# Altium integrated library NSC Voltage Reference.IntLib: 777 symbols (part 17 of 20)
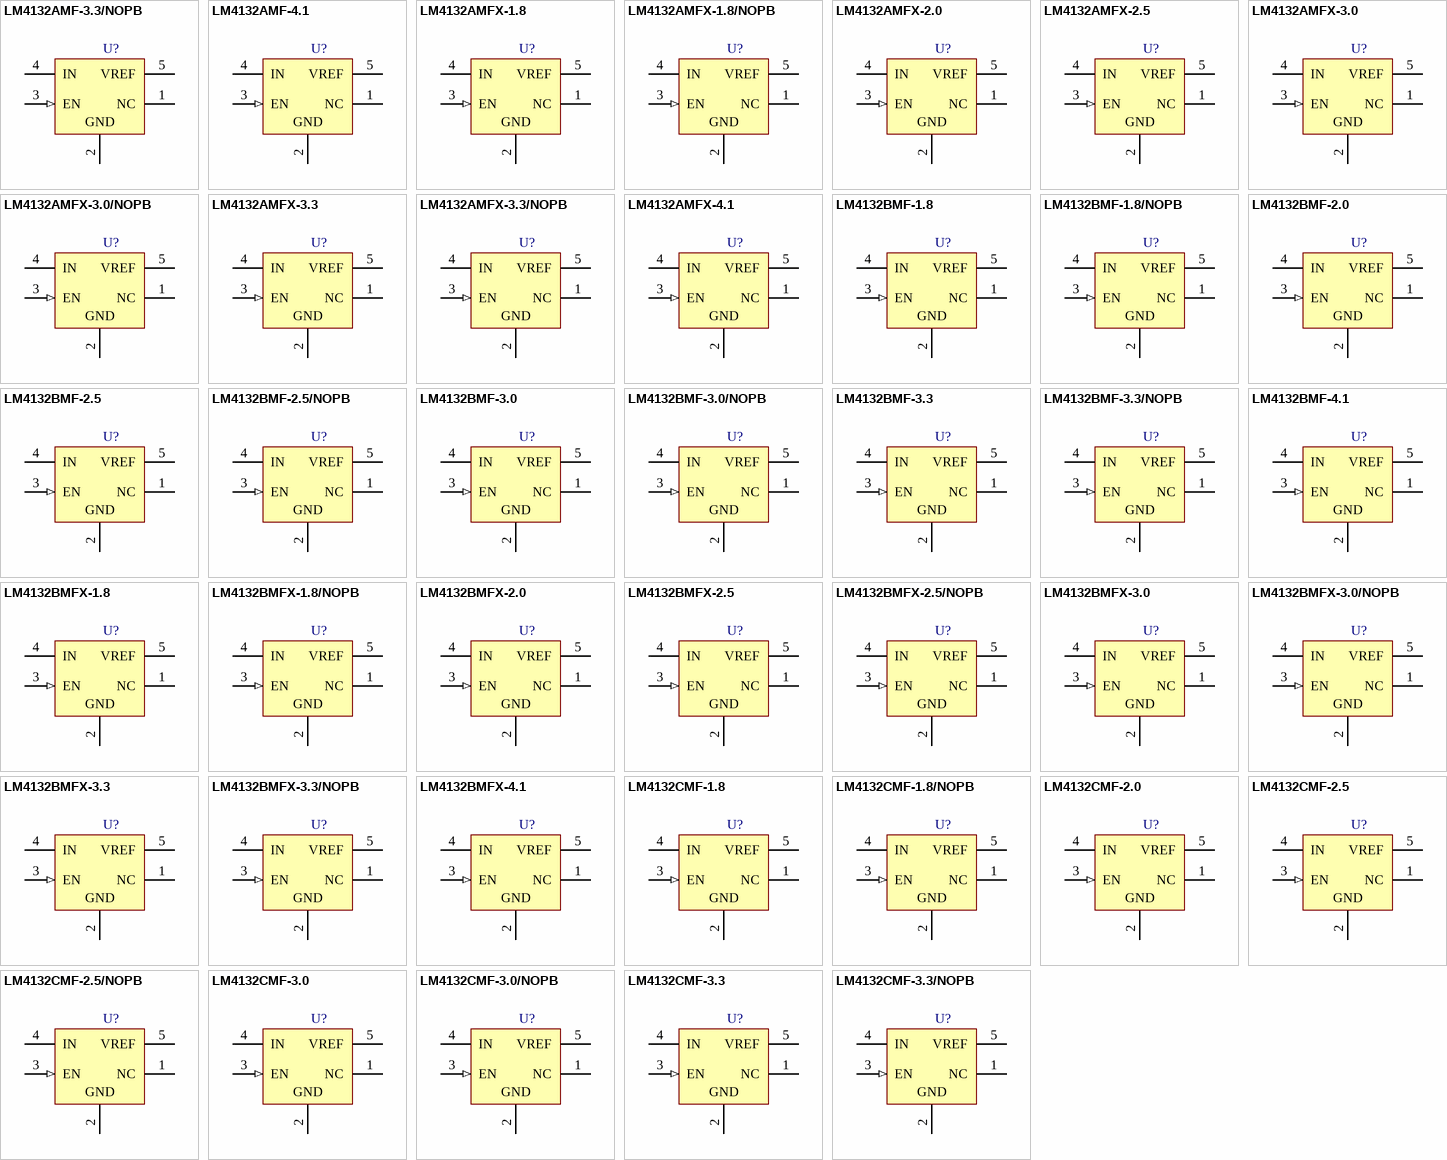
[diagram p36: symbols LM4132AMF-3.3/NOPB to LM4132CMF-3.3/NOPB]

## LM4132AMF-4.1
designator U?
Precision Low Dropout Voltage Reference, 5-pin SOT-23; PartNumber: LM4132AMF-4.1; Manufacturer: National Semiconductor; PackageTopMarking: R4FA*XTT; PowerWise: Y; CompType: Voltage Reference IC; Published: 4-Dec-2008; DatasheetVersion: Aug-2006; PackageVersion: revD, Aug-2008; PackageReference: MF05A; Publisher: Altium Limited; PackageDescription: Molded SOT-23, .115 x .063 x .040 in Body, 5 Lead, .0375 in Pitch; Supplier 1: Farnell; Supplier Part Number 1: 1312751; RoHS: N; PinCount: 5; ComponentLink1Description: LM4132 Datasheet; ComponentLink1URL: http://www.national.com/ds/LM/LM4132.pdf; ComponentLink2Description: LM4132 Web Page; ComponentLink2URL: http://www.national.com/pf/LM/LM4132.html; ComponentLink3Description: MF05A Package Page; ComponentLink3URL: http://www.national.com/packaging/folders/mf05a.html
footprint MF05A_N (SOT23, 5-Leads, Body 2.9x1.6mm, Pitch 0.95mm, Lead Span 2.8mm, IPC Medium Density)
footprint MF05A_L (SOT23, 5-Leads, Body 2.9x1.6mm, Pitch 0.95mm, Lead Span 2.8mm, IPC High Density)
footprint MF05A_M (SOT23, 5-Leads, Body 2.9x1.6mm, Pitch 0.95mm, Lead Span 2.8mm, IPC Low Density)
pins: 1 NC, 2 GND (power), 3 EN (in), 4 IN (power), 5 VREF (power)

## LM4132AMFX-1.8
designator U?
Precision Low Dropout Voltage Reference, 5-pin SOT-23; PartNumber: LM4132AMFX-1.8; Manufacturer: National Semiconductor; PackageTopMarking: R4AA*XTT; PowerWise: N; CompType: Voltage Reference IC; Published: 1-Mar-2010; DatasheetVersion: Aug-2006; PackageVersion: revD, Aug-2008; PackageReference: MF05A; Publisher: Altium Limited; PackageDescription: Molded SOT-23, .115 x .063 x .040 in Body, 5 Lead, .0375 in Pitch; RoHS: N; PinCount: 5; ComponentLink1Description: LM4132 Datasheet; ComponentLink1URL: http://www.national.com/ds/LM/LM4132.pdf; ComponentLink2Description: LM4132 Web Page; ComponentLink2URL: http://www.national.com/pf/LM/LM4132.html; ComponentLink3Description: MF05A Package Page; ComponentLink3URL: http://www.national.com/packaging/folders/mf05a.html
footprint MF05A_N (SOT23, 5-Leads, Body 2.9x1.6mm, Pitch 0.95mm, Lead Span 2.8mm, IPC Medium Density)
footprint MF05A_L (SOT23, 5-Leads, Body 2.9x1.6mm, Pitch 0.95mm, Lead Span 2.8mm, IPC High Density)
footprint MF05A_M (SOT23, 5-Leads, Body 2.9x1.6mm, Pitch 0.95mm, Lead Span 2.8mm, IPC Low Density)
pins: 1 NC, 2 GND (power), 3 EN (in), 4 IN (power), 5 VREF (power)

## LM4132AMFX-1.8/NOPB
designator U?
Precision Low Dropout Voltage Reference, 5-pin SOT-23, Pb-Free; PartNumber: LM4132AMFX-1.8/NOPB; Manufacturer: National Semiconductor; PackageTopMarking: R4AA*XTT; PowerWise: N; CompType: Voltage Reference IC; Published: 1-Mar-2010; DatasheetVersion: Aug-2006; PackageVersion: revD, Aug-2008; PackageReference: MF05A; Publisher: Altium Limited; PackageDescription: Molded SOT-23, .115 x .063 x .040 in Body, 5 Lead, .0375 in Pitch; Supplier 1: Digi-Key; Supplier Part Number 1: LM4132AMFX-1.8-ND; RoHS: Y; PinCount: 5; ComponentLink1Description: LM4132 Datasheet; ComponentLink1URL: http://www.national.com/ds/LM/LM4132.pdf; ComponentLink2Description: LM4132 Web Page; ComponentLink2URL: http://www.national.com/pf/LM/LM4132.html; ComponentLink3Description: MF05A Package Page; ComponentLink3URL: http://www.national.com/packaging/folders/mf05a.html
footprint MF05A_N (SOT23, 5-Leads, Body 2.9x1.6mm, Pitch 0.95mm, Lead Span 2.8mm, IPC Medium Density)
footprint MF05A_L (SOT23, 5-Leads, Body 2.9x1.6mm, Pitch 0.95mm, Lead Span 2.8mm, IPC High Density)
footprint MF05A_M (SOT23, 5-Leads, Body 2.9x1.6mm, Pitch 0.95mm, Lead Span 2.8mm, IPC Low Density)
pins: 1 NC, 2 GND (power), 3 EN (in), 4 IN (power), 5 VREF (power)

## LM4132AMFX-2.0
designator U?
Precision Low Dropout Voltage Reference, 5-pin SOT-23; PartNumber: LM4132AMFX-2.0; Manufacturer: National Semiconductor; PackageTopMarking: R4BA*XTT; PowerWise: Y; CompType: Voltage Reference IC; Published: 1-Mar-2010; DatasheetVersion: Aug-2006; PackageVersion: revD, Aug-2008; PackageReference: MF05A; Publisher: Altium Limited; PackageDescription: Molded SOT-23, .115 x .063 x .040 in Body, 5 Lead, .0375 in Pitch; RoHS: N; PinCount: 5; ComponentLink1Description: LM4132 Datasheet; ComponentLink1URL: http://www.national.com/ds/LM/LM4132.pdf; ComponentLink2Description: LM4132 Web Page; ComponentLink2URL: http://www.national.com/pf/LM/LM4132.html; ComponentLink3Description: MF05A Package Page; ComponentLink3URL: http://www.national.com/packaging/folders/mf05a.html
footprint MF05A_N (SOT23, 5-Leads, Body 2.9x1.6mm, Pitch 0.95mm, Lead Span 2.8mm, IPC Medium Density)
footprint MF05A_L (SOT23, 5-Leads, Body 2.9x1.6mm, Pitch 0.95mm, Lead Span 2.8mm, IPC High Density)
footprint MF05A_M (SOT23, 5-Leads, Body 2.9x1.6mm, Pitch 0.95mm, Lead Span 2.8mm, IPC Low Density)
pins: 1 NC, 2 GND (power), 3 EN (in), 4 IN (power), 5 VREF (power)

## LM4132AMFX-2.5
designator U?
Precision Low Dropout Voltage Reference, 5-pin SOT-23; PartNumber: LM4132AMFX-2.5; Manufacturer: National Semiconductor; PackageTopMarking: R4CA*XTT; PowerWise: Y; CompType: Voltage Reference IC; Published: 1-Mar-2010; DatasheetVersion: Aug-2006; PackageVersion: revD, Aug-2008; PackageReference: MF05A; Publisher: Altium Limited; PackageDescription: Molded SOT-23, .115 x .063 x .040 in Body, 5 Lead, .0375 in Pitch; RoHS: N; PinCount: 5; ComponentLink1Description: LM4132 Datasheet; ComponentLink1URL: http://www.national.com/ds/LM/LM4132.pdf; ComponentLink2Description: LM4132 Web Page; ComponentLink2URL: http://www.national.com/pf/LM/LM4132.html; ComponentLink3Description: MF05A Package Page; ComponentLink3URL: http://www.national.com/packaging/folders/mf05a.html
footprint MF05A_N (SOT23, 5-Leads, Body 2.9x1.6mm, Pitch 0.95mm, Lead Span 2.8mm, IPC Medium Density)
footprint MF05A_L (SOT23, 5-Leads, Body 2.9x1.6mm, Pitch 0.95mm, Lead Span 2.8mm, IPC High Density)
footprint MF05A_M (SOT23, 5-Leads, Body 2.9x1.6mm, Pitch 0.95mm, Lead Span 2.8mm, IPC Low Density)
pins: 1 NC, 2 GND (power), 3 EN (in), 4 IN (power), 5 VREF (power)

## LM4132AMFX-3.0
designator U?
Precision Low Dropout Voltage Reference, 5-pin SOT-23; PartNumber: LM4132AMFX-3.0; Manufacturer: National Semiconductor; PackageTopMarking: R4DA*XTT; PowerWise: N; CompType: Voltage Reference IC; Published: 1-Mar-2010; DatasheetVersion: Aug-2006; PackageVersion: revD, Aug-2008; PackageReference: MF05A; Publisher: Altium Limited; PackageDescription: Molded SOT-23, .115 x .063 x .040 in Body, 5 Lead, .0375 in Pitch; RoHS: N; PinCount: 5; ComponentLink1Description: LM4132 Datasheet; ComponentLink1URL: http://www.national.com/ds/LM/LM4132.pdf; ComponentLink2Description: LM4132 Web Page; ComponentLink2URL: http://www.national.com/pf/LM/LM4132.html; ComponentLink3Description: MF05A Package Page; ComponentLink3URL: http://www.national.com/packaging/folders/mf05a.html
footprint MF05A_N (SOT23, 5-Leads, Body 2.9x1.6mm, Pitch 0.95mm, Lead Span 2.8mm, IPC Medium Density)
footprint MF05A_L (SOT23, 5-Leads, Body 2.9x1.6mm, Pitch 0.95mm, Lead Span 2.8mm, IPC High Density)
footprint MF05A_M (SOT23, 5-Leads, Body 2.9x1.6mm, Pitch 0.95mm, Lead Span 2.8mm, IPC Low Density)
pins: 1 NC, 2 GND (power), 3 EN (in), 4 IN (power), 5 VREF (power)

## LM4132AMFX-3.0/NOPB
designator U?
Precision Low Dropout Voltage Reference, 5-pin SOT-23, Pb-Free; PartNumber: LM4132AMFX-3.0/NOPB; Manufacturer: National Semiconductor; PackageTopMarking: R4DA*XTT; PowerWise: N; CompType: Voltage Reference IC; Published: 1-Mar-2010; DatasheetVersion: Aug-2006; PackageVersion: revD, Aug-2008; PackageReference: MF05A; Publisher: Altium Limited; PackageDescription: Molded SOT-23, .115 x .063 x .040 in Body, 5 Lead, .0375 in Pitch; Supplier 1: Digi-Key; Supplier Part Number 1: LM4132AMFX-3.0-ND; RoHS: Y; PinCount: 5; ComponentLink1Description: LM4132 Datasheet; ComponentLink1URL: http://www.national.com/ds/LM/LM4132.pdf; ComponentLink2Description: LM4132 Web Page; ComponentLink2URL: http://www.national.com/pf/LM/LM4132.html; ComponentLink3Description: MF05A Package Page; ComponentLink3URL: http://www.national.com/packaging/folders/mf05a.html
footprint MF05A_N (SOT23, 5-Leads, Body 2.9x1.6mm, Pitch 0.95mm, Lead Span 2.8mm, IPC Medium Density)
footprint MF05A_L (SOT23, 5-Leads, Body 2.9x1.6mm, Pitch 0.95mm, Lead Span 2.8mm, IPC High Density)
footprint MF05A_M (SOT23, 5-Leads, Body 2.9x1.6mm, Pitch 0.95mm, Lead Span 2.8mm, IPC Low Density)
pins: 1 NC, 2 GND (power), 3 EN (in), 4 IN (power), 5 VREF (power)

## LM4132AMFX-3.3
designator U?
Precision Low Dropout Voltage Reference, 5-pin SOT-23; PartNumber: LM4132AMFX-3.3; Manufacturer: National Semiconductor; PackageTopMarking: R4EA*XTT; PowerWise: N; CompType: Voltage Reference IC; Published: 1-Mar-2010; DatasheetVersion: Aug-2006; PackageVersion: revD, Aug-2008; PackageReference: MF05A; Publisher: Altium Limited; PackageDescription: Molded SOT-23, .115 x .063 x .040 in Body, 5 Lead, .0375 in Pitch; RoHS: N; PinCount: 5; ComponentLink1Description: LM4132 Datasheet; ComponentLink1URL: http://www.national.com/ds/LM/LM4132.pdf; ComponentLink2Description: LM4132 Web Page; ComponentLink2URL: http://www.national.com/pf/LM/LM4132.html; ComponentLink3Description: MF05A Package Page; ComponentLink3URL: http://www.national.com/packaging/folders/mf05a.html
footprint MF05A_N (SOT23, 5-Leads, Body 2.9x1.6mm, Pitch 0.95mm, Lead Span 2.8mm, IPC Medium Density)
footprint MF05A_L (SOT23, 5-Leads, Body 2.9x1.6mm, Pitch 0.95mm, Lead Span 2.8mm, IPC High Density)
footprint MF05A_M (SOT23, 5-Leads, Body 2.9x1.6mm, Pitch 0.95mm, Lead Span 2.8mm, IPC Low Density)
pins: 1 NC, 2 GND (power), 3 EN (in), 4 IN (power), 5 VREF (power)

## LM4132AMFX-3.3/NOPB
designator U?
Precision Low Dropout Voltage Reference, 5-pin SOT-23, Pb-Free; PartNumber: LM4132AMFX-3.3/NOPB; Manufacturer: National Semiconductor; PackageTopMarking: R4EA*XTT; PowerWise: N; CompType: Voltage Reference IC; Published: 1-Mar-2010; DatasheetVersion: Aug-2006; PackageVersion: revD, Aug-2008; PackageReference: MF05A; Publisher: Altium Limited; PackageDescription: Molded SOT-23, .115 x .063 x .040 in Body, 5 Lead, .0375 in Pitch; Supplier 1: Digi-Key; Supplier Part Number 1: LM4132AMFX-3.3-ND; RoHS: Y; PinCount: 5; ComponentLink1Description: LM4132 Datasheet; ComponentLink1URL: http://www.national.com/ds/LM/LM4132.pdf; ComponentLink2Description: LM4132 Web Page; ComponentLink2URL: http://www.national.com/pf/LM/LM4132.html; ComponentLink3Description: MF05A Package Page; ComponentLink3URL: http://www.national.com/packaging/folders/mf05a.html
footprint MF05A_N (SOT23, 5-Leads, Body 2.9x1.6mm, Pitch 0.95mm, Lead Span 2.8mm, IPC Medium Density)
footprint MF05A_L (SOT23, 5-Leads, Body 2.9x1.6mm, Pitch 0.95mm, Lead Span 2.8mm, IPC High Density)
footprint MF05A_M (SOT23, 5-Leads, Body 2.9x1.6mm, Pitch 0.95mm, Lead Span 2.8mm, IPC Low Density)
pins: 1 NC, 2 GND (power), 3 EN (in), 4 IN (power), 5 VREF (power)

## LM4132AMFX-4.1
designator U?
Precision Low Dropout Voltage Reference, 5-pin SOT-23; PartNumber: LM4132AMFX-4.1; Manufacturer: National Semiconductor; PackageTopMarking: R4FA*XTT; PowerWise: Y; CompType: Voltage Reference IC; Published: 1-Mar-2010; DatasheetVersion: Aug-2006; PackageVersion: revD, Aug-2008; PackageReference: MF05A; Publisher: Altium Limited; PackageDescription: Molded SOT-23, .115 x .063 x .040 in Body, 5 Lead, .0375 in Pitch; RoHS: N; PinCount: 5; ComponentLink1Description: LM4132 Datasheet; ComponentLink1URL: http://www.national.com/ds/LM/LM4132.pdf; ComponentLink2Description: LM4132 Web Page; ComponentLink2URL: http://www.national.com/pf/LM/LM4132.html; ComponentLink3Description: MF05A Package Page; ComponentLink3URL: http://www.national.com/packaging/folders/mf05a.html
footprint MF05A_N (SOT23, 5-Leads, Body 2.9x1.6mm, Pitch 0.95mm, Lead Span 2.8mm, IPC Medium Density)
footprint MF05A_L (SOT23, 5-Leads, Body 2.9x1.6mm, Pitch 0.95mm, Lead Span 2.8mm, IPC High Density)
footprint MF05A_M (SOT23, 5-Leads, Body 2.9x1.6mm, Pitch 0.95mm, Lead Span 2.8mm, IPC Low Density)
pins: 1 NC, 2 GND (power), 3 EN (in), 4 IN (power), 5 VREF (power)

## LM4132BMF-1.8
designator U?
Precision Low Dropout Voltage Reference, 5-pin SOT-23; PartNumber: LM4132BMF-1.8; Manufacturer: National Semiconductor; PackageTopMarking: R4AB*XTT; PowerWise: N; CompType: Voltage Reference IC; Published: 4-Dec-2008; DatasheetVersion: Aug-2006; PackageVersion: revD, Aug-2008; PackageReference: MF05A; Publisher: Altium Limited; PackageDescription: Molded SOT-23, .115 x .063 x .040 in Body, 5 Lead, .0375 in Pitch; RoHS: N; PinCount: 5; ComponentLink1Description: LM4132 Datasheet; ComponentLink1URL: http://www.national.com/ds/LM/LM4132.pdf; ComponentLink2Description: LM4132 Web Page; ComponentLink2URL: http://www.national.com/pf/LM/LM4132.html; ComponentLink3Description: MF05A Package Page; ComponentLink3URL: http://www.national.com/packaging/folders/mf05a.html
footprint MF05A_N (SOT23, 5-Leads, Body 2.9x1.6mm, Pitch 0.95mm, Lead Span 2.8mm, IPC Medium Density)
footprint MF05A_L (SOT23, 5-Leads, Body 2.9x1.6mm, Pitch 0.95mm, Lead Span 2.8mm, IPC High Density)
footprint MF05A_M (SOT23, 5-Leads, Body 2.9x1.6mm, Pitch 0.95mm, Lead Span 2.8mm, IPC Low Density)
pins: 1 NC, 2 GND (power), 3 EN (in), 4 IN (power), 5 VREF (power)

## LM4132BMF-1.8/NOPB
designator U?
Precision Low Dropout Voltage Reference, 5-pin SOT-23, Pb-Free; PartNumber: LM4132BMF-1.8/NOPB; Manufacturer: National Semiconductor; PackageTopMarking: R4AB*XTT; PowerWise: N; CompType: Voltage Reference IC; Published: 1-Mar-2010; DatasheetVersion: Aug-2006; PackageVersion: revD, Aug-2008; PackageReference: MF05A; Publisher: Altium Limited; PackageDescription: Molded SOT-23, .115 x .063 x .040 in Body, 5 Lead, .0375 in Pitch; Supplier 1: Digi-Key; Supplier Part Number 1: LM4132BMF-1.8TR-ND; Supplier 2: Digi-Key; Supplier Part Number 2: LM4132BMF-1.8CT-ND; Supplier 3: Digi-Key; Supplier Part Number 3: LM4132BMF-1.8DKR-ND; RoHS: Y; PinCount: 5; ComponentLink1Description: LM4132 Datasheet; ComponentLink1URL: http://www.national.com/ds/LM/LM4132.pdf; ComponentLink2Description: LM4132 Web Page; ComponentLink2URL: http://www.national.com/pf/LM/LM4132.html; ComponentLink3Description: MF05A Package Page; ComponentLink3URL: http://www.national.com/packaging/folders/mf05a.html
footprint MF05A_N (SOT23, 5-Leads, Body 2.9x1.6mm, Pitch 0.95mm, Lead Span 2.8mm, IPC Medium Density)
footprint MF05A_L (SOT23, 5-Leads, Body 2.9x1.6mm, Pitch 0.95mm, Lead Span 2.8mm, IPC High Density)
footprint MF05A_M (SOT23, 5-Leads, Body 2.9x1.6mm, Pitch 0.95mm, Lead Span 2.8mm, IPC Low Density)
pins: 1 NC, 2 GND (power), 3 EN (in), 4 IN (power), 5 VREF (power)

## LM4132BMF-2.0
designator U?
Precision Low Dropout Voltage Reference, 5-pin SOT-23; PartNumber: LM4132BMF-2.0; Manufacturer: National Semiconductor; PackageTopMarking: R4BB*XTT; PowerWise: Y; CompType: Voltage Reference IC; Published: 4-Dec-2008; DatasheetVersion: Aug-2006; PackageVersion: revD, Aug-2008; PackageReference: MF05A; Publisher: Altium Limited; PackageDescription: Molded SOT-23, .115 x .063 x .040 in Body, 5 Lead, .0375 in Pitch; Supplier 1: Farnell; Supplier Part Number 1: 1312752; RoHS: N; PinCount: 5; ComponentLink1Description: LM4132 Datasheet; ComponentLink1URL: http://www.national.com/ds/LM/LM4132.pdf; ComponentLink2Description: LM4132 Web Page; ComponentLink2URL: http://www.national.com/pf/LM/LM4132.html; ComponentLink3Description: MF05A Package Page; ComponentLink3URL: http://www.national.com/packaging/folders/mf05a.html
footprint MF05A_N (SOT23, 5-Leads, Body 2.9x1.6mm, Pitch 0.95mm, Lead Span 2.8mm, IPC Medium Density)
footprint MF05A_L (SOT23, 5-Leads, Body 2.9x1.6mm, Pitch 0.95mm, Lead Span 2.8mm, IPC High Density)
footprint MF05A_M (SOT23, 5-Leads, Body 2.9x1.6mm, Pitch 0.95mm, Lead Span 2.8mm, IPC Low Density)
pins: 1 NC, 2 GND (power), 3 EN (in), 4 IN (power), 5 VREF (power)

## LM4132BMF-2.5
designator U?
Precision Low Dropout Voltage Reference, 5-pin SOT-23; PartNumber: LM4132BMF-2.5; Manufacturer: National Semiconductor; PackageTopMarking: R4CB*XTT; PowerWise: Y; CompType: Voltage Reference IC; Published: 4-Dec-2008; DatasheetVersion: Aug-2006; PackageVersion: revD, Aug-2008; PackageReference: MF05A; Publisher: Altium Limited; PackageDescription: Molded SOT-23, .115 x .063 x .040 in Body, 5 Lead, .0375 in Pitch; Supplier 1: Farnell; Supplier Part Number 1: 1312754; RoHS: N; PinCount: 5; ComponentLink1Description: LM4132 Datasheet; ComponentLink1URL: http://www.national.com/ds/LM/LM4132.pdf; ComponentLink2Description: LM4132 Web Page; ComponentLink2URL: http://www.national.com/pf/LM/LM4132.html; ComponentLink3Description: MF05A Package Page; ComponentLink3URL: http://www.national.com/packaging/folders/mf05a.html
footprint MF05A_N (SOT23, 5-Leads, Body 2.9x1.6mm, Pitch 0.95mm, Lead Span 2.8mm, IPC Medium Density)
footprint MF05A_L (SOT23, 5-Leads, Body 2.9x1.6mm, Pitch 0.95mm, Lead Span 2.8mm, IPC High Density)
footprint MF05A_M (SOT23, 5-Leads, Body 2.9x1.6mm, Pitch 0.95mm, Lead Span 2.8mm, IPC Low Density)
pins: 1 NC, 2 GND (power), 3 EN (in), 4 IN (power), 5 VREF (power)

## LM4132BMF-2.5/NOPB
designator U?
Precision Low Dropout Voltage Reference, 5-pin SOT-23, Pb-Free; PartNumber: LM4132BMF-2.5/NOPB; Manufacturer: National Semiconductor; PackageTopMarking: R4CB*XTT; PowerWise: Y; CompType: Voltage Reference IC; Published: 1-Mar-2010; DatasheetVersion: Aug-2006; PackageVersion: revD, Aug-2008; PackageReference: MF05A; Publisher: Altium Limited; PackageDescription: Molded SOT-23, .115 x .063 x .040 in Body, 5 Lead, .0375 in Pitch; Supplier 1: Digi-Key; Supplier Part Number 1: LM4132BMF-2.5TR-ND; Supplier 2: Digi-Key; Supplier Part Number 2: LM4132BMF-2.5CT-ND; Supplier 3: Digi-Key; Supplier Part Number 3: LM4132BMF-2.5DKR-ND; Supplier 4: Farnell; Supplier Part Number 4: 1559875; RoHS: Y; PinCount: 5; ComponentLink1Description: LM4132 Datasheet; ComponentLink1URL: http://www.national.com/ds/LM/LM4132.pdf; ComponentLink2Description: LM4132 Web Page; ComponentLink2URL: http://www.national.com/pf/LM/LM4132.html; ComponentLink3Description: MF05A Package Page; ComponentLink3URL: http://www.national.com/packaging/folders/mf05a.html
footprint MF05A_N (SOT23, 5-Leads, Body 2.9x1.6mm, Pitch 0.95mm, Lead Span 2.8mm, IPC Medium Density)
footprint MF05A_L (SOT23, 5-Leads, Body 2.9x1.6mm, Pitch 0.95mm, Lead Span 2.8mm, IPC High Density)
footprint MF05A_M (SOT23, 5-Leads, Body 2.9x1.6mm, Pitch 0.95mm, Lead Span 2.8mm, IPC Low Density)
pins: 1 NC, 2 GND (power), 3 EN (in), 4 IN (power), 5 VREF (power)

## LM4132BMF-3.0
designator U?
Precision Low Dropout Voltage Reference, 5-pin SOT-23; PartNumber: LM4132BMF-3.0; Manufacturer: National Semiconductor; PackageTopMarking: R4DB*XTT; PowerWise: N; CompType: Voltage Reference IC; Published: 4-Dec-2008; DatasheetVersion: Aug-2006; PackageVersion: revD, Aug-2008; PackageReference: MF05A; Publisher: Altium Limited; PackageDescription: Molded SOT-23, .115 x .063 x .040 in Body, 5 Lead, .0375 in Pitch; RoHS: N; PinCount: 5; ComponentLink1Description: LM4132 Datasheet; ComponentLink1URL: http://www.national.com/ds/LM/LM4132.pdf; ComponentLink2Description: LM4132 Web Page; ComponentLink2URL: http://www.national.com/pf/LM/LM4132.html; ComponentLink3Description: MF05A Package Page; ComponentLink3URL: http://www.national.com/packaging/folders/mf05a.html
footprint MF05A_N (SOT23, 5-Leads, Body 2.9x1.6mm, Pitch 0.95mm, Lead Span 2.8mm, IPC Medium Density)
footprint MF05A_L (SOT23, 5-Leads, Body 2.9x1.6mm, Pitch 0.95mm, Lead Span 2.8mm, IPC High Density)
footprint MF05A_M (SOT23, 5-Leads, Body 2.9x1.6mm, Pitch 0.95mm, Lead Span 2.8mm, IPC Low Density)
pins: 1 NC, 2 GND (power), 3 EN (in), 4 IN (power), 5 VREF (power)

## LM4132BMF-3.0/NOPB
designator U?
Precision Low Dropout Voltage Reference, 5-pin SOT-23, Pb-Free; PartNumber: LM4132BMF-3.0/NOPB; Manufacturer: National Semiconductor; PackageTopMarking: R4DB*XTT; PowerWise: N; CompType: Voltage Reference IC; Published: 1-Mar-2010; DatasheetVersion: Aug-2006; PackageVersion: revD, Aug-2008; PackageReference: MF05A; Publisher: Altium Limited; PackageDescription: Molded SOT-23, .115 x .063 x .040 in Body, 5 Lead, .0375 in Pitch; Supplier 1: Digi-Key; Supplier Part Number 1: LM4132BMF-3.0TR-ND; Supplier 2: Digi-Key; Supplier Part Number 2: LM4132BMF-3.0CT-ND; Supplier 3: Digi-Key; Supplier Part Number 3: LM4132BMF-3.0DKR-ND; RoHS: Y; PinCount: 5; ComponentLink1Description: LM4132 Datasheet; ComponentLink1URL: http://www.national.com/ds/LM/LM4132.pdf; ComponentLink2Description: LM4132 Web Page; ComponentLink2URL: http://www.national.com/pf/LM/LM4132.html; ComponentLink3Description: MF05A Package Page; ComponentLink3URL: http://www.national.com/packaging/folders/mf05a.html
footprint MF05A_N (SOT23, 5-Leads, Body 2.9x1.6mm, Pitch 0.95mm, Lead Span 2.8mm, IPC Medium Density)
footprint MF05A_L (SOT23, 5-Leads, Body 2.9x1.6mm, Pitch 0.95mm, Lead Span 2.8mm, IPC High Density)
footprint MF05A_M (SOT23, 5-Leads, Body 2.9x1.6mm, Pitch 0.95mm, Lead Span 2.8mm, IPC Low Density)
pins: 1 NC, 2 GND (power), 3 EN (in), 4 IN (power), 5 VREF (power)

## LM4132BMF-3.3
designator U?
Precision Low Dropout Voltage Reference, 5-pin SOT-23; PartNumber: LM4132BMF-3.3; Manufacturer: National Semiconductor; PackageTopMarking: R4EB*XTT; PowerWise: N; CompType: Voltage Reference IC; Published: 4-Dec-2008; DatasheetVersion: Aug-2006; PackageVersion: revD, Aug-2008; PackageReference: MF05A; Publisher: Altium Limited; PackageDescription: Molded SOT-23, .115 x .063 x .040 in Body, 5 Lead, .0375 in Pitch; RoHS: N; PinCount: 5; ComponentLink1Description: LM4132 Datasheet; ComponentLink1URL: http://www.national.com/ds/LM/LM4132.pdf; ComponentLink2Description: LM4132 Web Page; ComponentLink2URL: http://www.national.com/pf/LM/LM4132.html; ComponentLink3Description: MF05A Package Page; ComponentLink3URL: http://www.national.com/packaging/folders/mf05a.html
footprint MF05A_N (SOT23, 5-Leads, Body 2.9x1.6mm, Pitch 0.95mm, Lead Span 2.8mm, IPC Medium Density)
footprint MF05A_L (SOT23, 5-Leads, Body 2.9x1.6mm, Pitch 0.95mm, Lead Span 2.8mm, IPC High Density)
footprint MF05A_M (SOT23, 5-Leads, Body 2.9x1.6mm, Pitch 0.95mm, Lead Span 2.8mm, IPC Low Density)
pins: 1 NC, 2 GND (power), 3 EN (in), 4 IN (power), 5 VREF (power)

## LM4132BMF-3.3/NOPB
designator U?
Precision Low Dropout Voltage Reference, 5-pin SOT-23, Pb-Free; PartNumber: LM4132BMF-3.3/NOPB; Manufacturer: National Semiconductor; PackageTopMarking: R4EB*XTT; PowerWise: N; CompType: Voltage Reference IC; Published: 1-Mar-2010; DatasheetVersion: Aug-2006; PackageVersion: revD, Aug-2008; PackageReference: MF05A; Publisher: Altium Limited; PackageDescription: Molded SOT-23, .115 x .063 x .040 in Body, 5 Lead, .0375 in Pitch; Supplier 1: Digi-Key; Supplier Part Number 1: LM4132BMF-3.3TR-ND; Supplier 2: Digi-Key; Supplier Part Number 2: LM4132BMF-3.3CT-ND; Supplier 3: Digi-Key; Supplier Part Number 3: LM4132BMF-3.3DKR-ND; Supplier 4: Farnell; Supplier Part Number 4: 1694471; RoHS: Y; PinCount: 5; ComponentLink1Description: LM4132 Datasheet; ComponentLink1URL: http://www.national.com/ds/LM/LM4132.pdf; ComponentLink2Description: LM4132 Web Page; ComponentLink2URL: http://www.national.com/pf/LM/LM4132.html; ComponentLink3Description: MF05A Package Page; ComponentLink3URL: http://www.national.com/packaging/folders/mf05a.html
footprint MF05A_N (SOT23, 5-Leads, Body 2.9x1.6mm, Pitch 0.95mm, Lead Span 2.8mm, IPC Medium Density)
footprint MF05A_L (SOT23, 5-Leads, Body 2.9x1.6mm, Pitch 0.95mm, Lead Span 2.8mm, IPC High Density)
footprint MF05A_M (SOT23, 5-Leads, Body 2.9x1.6mm, Pitch 0.95mm, Lead Span 2.8mm, IPC Low Density)
pins: 1 NC, 2 GND (power), 3 EN (in), 4 IN (power), 5 VREF (power)

## LM4132BMF-4.1
designator U?
Precision Low Dropout Voltage Reference, 5-pin SOT-23; PartNumber: LM4132BMF-4.1; Manufacturer: National Semiconductor; PackageTopMarking: R4FB*XTT; PowerWise: Y; CompType: Voltage Reference IC; Published: 4-Dec-2008; DatasheetVersion: Aug-2006; PackageVersion: revD, Aug-2008; PackageReference: MF05A; Publisher: Altium Limited; PackageDescription: Molded SOT-23, .115 x .063 x .040 in Body, 5 Lead, .0375 in Pitch; Supplier 1: Farnell; Supplier Part Number 1: 1312755; RoHS: N; PinCount: 5; ComponentLink1Description: LM4132 Datasheet; ComponentLink1URL: http://www.national.com/ds/LM/LM4132.pdf; ComponentLink2Description: LM4132 Web Page; ComponentLink2URL: http://www.national.com/pf/LM/LM4132.html; ComponentLink3Description: MF05A Package Page; ComponentLink3URL: http://www.national.com/packaging/folders/mf05a.html
footprint MF05A_N (SOT23, 5-Leads, Body 2.9x1.6mm, Pitch 0.95mm, Lead Span 2.8mm, IPC Medium Density)
footprint MF05A_L (SOT23, 5-Leads, Body 2.9x1.6mm, Pitch 0.95mm, Lead Span 2.8mm, IPC High Density)
footprint MF05A_M (SOT23, 5-Leads, Body 2.9x1.6mm, Pitch 0.95mm, Lead Span 2.8mm, IPC Low Density)
pins: 1 NC, 2 GND (power), 3 EN (in), 4 IN (power), 5 VREF (power)

## LM4132BMFX-1.8
designator U?
Precision Low Dropout Voltage Reference, 5-pin SOT-23; PartNumber: LM4132BMFX-1.8; Manufacturer: National Semiconductor; PackageTopMarking: R4AB*XTT; PowerWise: N; CompType: Voltage Reference IC; Published: 1-Mar-2010; DatasheetVersion: Aug-2006; PackageVersion: revD, Aug-2008; PackageReference: MF05A; Publisher: Altium Limited; PackageDescription: Molded SOT-23, .115 x .063 x .040 in Body, 5 Lead, .0375 in Pitch; RoHS: N; PinCount: 5; ComponentLink1Description: LM4132 Datasheet; ComponentLink1URL: http://www.national.com/ds/LM/LM4132.pdf; ComponentLink2Description: LM4132 Web Page; ComponentLink2URL: http://www.national.com/pf/LM/LM4132.html; ComponentLink3Description: MF05A Package Page; ComponentLink3URL: http://www.national.com/packaging/folders/mf05a.html
footprint MF05A_N (SOT23, 5-Leads, Body 2.9x1.6mm, Pitch 0.95mm, Lead Span 2.8mm, IPC Medium Density)
footprint MF05A_L (SOT23, 5-Leads, Body 2.9x1.6mm, Pitch 0.95mm, Lead Span 2.8mm, IPC High Density)
footprint MF05A_M (SOT23, 5-Leads, Body 2.9x1.6mm, Pitch 0.95mm, Lead Span 2.8mm, IPC Low Density)
pins: 1 NC, 2 GND (power), 3 EN (in), 4 IN (power), 5 VREF (power)

## LM4132BMFX-1.8/NOPB
designator U?
Precision Low Dropout Voltage Reference, 5-pin SOT-23, Pb-Free; PartNumber: LM4132BMFX-1.8/NOPB; Manufacturer: National Semiconductor; PackageTopMarking: R4AB*XTT; PowerWise: N; CompType: Voltage Reference IC; Published: 1-Mar-2010; DatasheetVersion: Aug-2006; PackageVersion: revD, Aug-2008; PackageReference: MF05A; Publisher: Altium Limited; PackageDescription: Molded SOT-23, .115 x .063 x .040 in Body, 5 Lead, .0375 in Pitch; Supplier 1: Digi-Key; Supplier Part Number 1: LM4132BMFX-1.8-ND; RoHS: Y; PinCount: 5; ComponentLink1Description: LM4132 Datasheet; ComponentLink1URL: http://www.national.com/ds/LM/LM4132.pdf; ComponentLink2Description: LM4132 Web Page; ComponentLink2URL: http://www.national.com/pf/LM/LM4132.html; ComponentLink3Description: MF05A Package Page; ComponentLink3URL: http://www.national.com/packaging/folders/mf05a.html
footprint MF05A_N (SOT23, 5-Leads, Body 2.9x1.6mm, Pitch 0.95mm, Lead Span 2.8mm, IPC Medium Density)
footprint MF05A_L (SOT23, 5-Leads, Body 2.9x1.6mm, Pitch 0.95mm, Lead Span 2.8mm, IPC High Density)
footprint MF05A_M (SOT23, 5-Leads, Body 2.9x1.6mm, Pitch 0.95mm, Lead Span 2.8mm, IPC Low Density)
pins: 1 NC, 2 GND (power), 3 EN (in), 4 IN (power), 5 VREF (power)

## LM4132BMFX-2.0
designator U?
Precision Low Dropout Voltage Reference, 5-pin SOT-23; PartNumber: LM4132BMFX-2.0; Manufacturer: National Semiconductor; PackageTopMarking: R4BB*XTT; PowerWise: Y; CompType: Voltage Reference IC; Published: 1-Mar-2010; DatasheetVersion: Aug-2006; PackageVersion: revD, Aug-2008; PackageReference: MF05A; Publisher: Altium Limited; PackageDescription: Molded SOT-23, .115 x .063 x .040 in Body, 5 Lead, .0375 in Pitch; RoHS: N; PinCount: 5; ComponentLink1Description: LM4132 Datasheet; ComponentLink1URL: http://www.national.com/ds/LM/LM4132.pdf; ComponentLink2Description: LM4132 Web Page; ComponentLink2URL: http://www.national.com/pf/LM/LM4132.html; ComponentLink3Description: MF05A Package Page; ComponentLink3URL: http://www.national.com/packaging/folders/mf05a.html
footprint MF05A_N (SOT23, 5-Leads, Body 2.9x1.6mm, Pitch 0.95mm, Lead Span 2.8mm, IPC Medium Density)
footprint MF05A_L (SOT23, 5-Leads, Body 2.9x1.6mm, Pitch 0.95mm, Lead Span 2.8mm, IPC High Density)
footprint MF05A_M (SOT23, 5-Leads, Body 2.9x1.6mm, Pitch 0.95mm, Lead Span 2.8mm, IPC Low Density)
pins: 1 NC, 2 GND (power), 3 EN (in), 4 IN (power), 5 VREF (power)

## LM4132BMFX-2.5
designator U?
Precision Low Dropout Voltage Reference, 5-pin SOT-23; PartNumber: LM4132BMFX-2.5; Manufacturer: National Semiconductor; PackageTopMarking: R4CB*XTT; PowerWise: Y; CompType: Voltage Reference IC; Published: 1-Mar-2010; DatasheetVersion: Aug-2006; PackageVersion: revD, Aug-2008; PackageReference: MF05A; Publisher: Altium Limited; PackageDescription: Molded SOT-23, .115 x .063 x .040 in Body, 5 Lead, .0375 in Pitch; RoHS: N; PinCount: 5; ComponentLink1Description: LM4132 Datasheet; ComponentLink1URL: http://www.national.com/ds/LM/LM4132.pdf; ComponentLink2Description: LM4132 Web Page; ComponentLink2URL: http://www.national.com/pf/LM/LM4132.html; ComponentLink3Description: MF05A Package Page; ComponentLink3URL: http://www.national.com/packaging/folders/mf05a.html
footprint MF05A_N (SOT23, 5-Leads, Body 2.9x1.6mm, Pitch 0.95mm, Lead Span 2.8mm, IPC Medium Density)
footprint MF05A_L (SOT23, 5-Leads, Body 2.9x1.6mm, Pitch 0.95mm, Lead Span 2.8mm, IPC High Density)
footprint MF05A_M (SOT23, 5-Leads, Body 2.9x1.6mm, Pitch 0.95mm, Lead Span 2.8mm, IPC Low Density)
pins: 1 NC, 2 GND (power), 3 EN (in), 4 IN (power), 5 VREF (power)

## LM4132BMFX-2.5/NOPB
designator U?
Precision Low Dropout Voltage Reference, 5-pin SOT-23, Pb-Free; PartNumber: LM4132BMFX-2.5/NOPB; Manufacturer: National Semiconductor; PackageTopMarking: R4CB*XTT; PowerWise: Y; CompType: Voltage Reference IC; Published: 1-Mar-2010; DatasheetVersion: Aug-2006; PackageVersion: revD, Aug-2008; PackageReference: MF05A; Publisher: Altium Limited; PackageDescription: Molded SOT-23, .115 x .063 x .040 in Body, 5 Lead, .0375 in Pitch; Supplier 1: Digi-Key; Supplier Part Number 1: LM4132BMFX-2.5-ND; RoHS: Y; PinCount: 5; ComponentLink1Description: LM4132 Datasheet; ComponentLink1URL: http://www.national.com/ds/LM/LM4132.pdf; ComponentLink2Description: LM4132 Web Page; ComponentLink2URL: http://www.national.com/pf/LM/LM4132.html; ComponentLink3Description: MF05A Package Page; ComponentLink3URL: http://www.national.com/packaging/folders/mf05a.html
footprint MF05A_N (SOT23, 5-Leads, Body 2.9x1.6mm, Pitch 0.95mm, Lead Span 2.8mm, IPC Medium Density)
footprint MF05A_L (SOT23, 5-Leads, Body 2.9x1.6mm, Pitch 0.95mm, Lead Span 2.8mm, IPC High Density)
footprint MF05A_M (SOT23, 5-Leads, Body 2.9x1.6mm, Pitch 0.95mm, Lead Span 2.8mm, IPC Low Density)
pins: 1 NC, 2 GND (power), 3 EN (in), 4 IN (power), 5 VREF (power)

## LM4132BMFX-3.0
designator U?
Precision Low Dropout Voltage Reference, 5-pin SOT-23; PartNumber: LM4132BMFX-3.0; Manufacturer: National Semiconductor; PackageTopMarking: R4DB*XTT; PowerWise: N; CompType: Voltage Reference IC; Published: 1-Mar-2010; DatasheetVersion: Aug-2006; PackageVersion: revD, Aug-2008; PackageReference: MF05A; Publisher: Altium Limited; PackageDescription: Molded SOT-23, .115 x .063 x .040 in Body, 5 Lead, .0375 in Pitch; RoHS: N; PinCount: 5; ComponentLink1Description: LM4132 Datasheet; ComponentLink1URL: http://www.national.com/ds/LM/LM4132.pdf; ComponentLink2Description: LM4132 Web Page; ComponentLink2URL: http://www.national.com/pf/LM/LM4132.html; ComponentLink3Description: MF05A Package Page; ComponentLink3URL: http://www.national.com/packaging/folders/mf05a.html
footprint MF05A_N (SOT23, 5-Leads, Body 2.9x1.6mm, Pitch 0.95mm, Lead Span 2.8mm, IPC Medium Density)
footprint MF05A_L (SOT23, 5-Leads, Body 2.9x1.6mm, Pitch 0.95mm, Lead Span 2.8mm, IPC High Density)
footprint MF05A_M (SOT23, 5-Leads, Body 2.9x1.6mm, Pitch 0.95mm, Lead Span 2.8mm, IPC Low Density)
pins: 1 NC, 2 GND (power), 3 EN (in), 4 IN (power), 5 VREF (power)

## LM4132BMFX-3.0/NOPB
designator U?
Precision Low Dropout Voltage Reference, 5-pin SOT-23, Pb-Free; PartNumber: LM4132BMFX-3.0/NOPB; Manufacturer: National Semiconductor; PackageTopMarking: R4DB*XTT; PowerWise: N; CompType: Voltage Reference IC; Published: 1-Mar-2010; DatasheetVersion: Aug-2006; PackageVersion: revD, Aug-2008; PackageReference: MF05A; Publisher: Altium Limited; PackageDescription: Molded SOT-23, .115 x .063 x .040 in Body, 5 Lead, .0375 in Pitch; Supplier 1: Digi-Key; Supplier Part Number 1: LM4132BMFX-3.0-ND; RoHS: Y; PinCount: 5; ComponentLink1Description: LM4132 Datasheet; ComponentLink1URL: http://www.national.com/ds/LM/LM4132.pdf; ComponentLink2Description: LM4132 Web Page; ComponentLink2URL: http://www.national.com/pf/LM/LM4132.html; ComponentLink3Description: MF05A Package Page; ComponentLink3URL: http://www.national.com/packaging/folders/mf05a.html
footprint MF05A_N (SOT23, 5-Leads, Body 2.9x1.6mm, Pitch 0.95mm, Lead Span 2.8mm, IPC Medium Density)
footprint MF05A_L (SOT23, 5-Leads, Body 2.9x1.6mm, Pitch 0.95mm, Lead Span 2.8mm, IPC High Density)
footprint MF05A_M (SOT23, 5-Leads, Body 2.9x1.6mm, Pitch 0.95mm, Lead Span 2.8mm, IPC Low Density)
pins: 1 NC, 2 GND (power), 3 EN (in), 4 IN (power), 5 VREF (power)

## LM4132BMFX-3.3
designator U?
Precision Low Dropout Voltage Reference, 5-pin SOT-23; PartNumber: LM4132BMFX-3.3; Manufacturer: National Semiconductor; PackageTopMarking: R4EB*XTT; PowerWise: N; CompType: Voltage Reference IC; Published: 1-Mar-2010; DatasheetVersion: Aug-2006; PackageVersion: revD, Aug-2008; PackageReference: MF05A; Publisher: Altium Limited; PackageDescription: Molded SOT-23, .115 x .063 x .040 in Body, 5 Lead, .0375 in Pitch; RoHS: N; PinCount: 5; ComponentLink1Description: LM4132 Datasheet; ComponentLink1URL: http://www.national.com/ds/LM/LM4132.pdf; ComponentLink2Description: LM4132 Web Page; ComponentLink2URL: http://www.national.com/pf/LM/LM4132.html; ComponentLink3Description: MF05A Package Page; ComponentLink3URL: http://www.national.com/packaging/folders/mf05a.html
footprint MF05A_N (SOT23, 5-Leads, Body 2.9x1.6mm, Pitch 0.95mm, Lead Span 2.8mm, IPC Medium Density)
footprint MF05A_L (SOT23, 5-Leads, Body 2.9x1.6mm, Pitch 0.95mm, Lead Span 2.8mm, IPC High Density)
footprint MF05A_M (SOT23, 5-Leads, Body 2.9x1.6mm, Pitch 0.95mm, Lead Span 2.8mm, IPC Low Density)
pins: 1 NC, 2 GND (power), 3 EN (in), 4 IN (power), 5 VREF (power)

## LM4132BMFX-3.3/NOPB
designator U?
Precision Low Dropout Voltage Reference, 5-pin SOT-23, Pb-Free; PartNumber: LM4132BMFX-3.3/NOPB; Manufacturer: National Semiconductor; PackageTopMarking: R4EB*XTT; PowerWise: N; CompType: Voltage Reference IC; Published: 1-Mar-2010; DatasheetVersion: Aug-2006; PackageVersion: revD, Aug-2008; PackageReference: MF05A; Publisher: Altium Limited; PackageDescription: Molded SOT-23, .115 x .063 x .040 in Body, 5 Lead, .0375 in Pitch; Supplier 1: Digi-Key; Supplier Part Number 1: LM4132BMFX-3.3-ND; RoHS: Y; PinCount: 5; ComponentLink1Description: LM4132 Datasheet; ComponentLink1URL: http://www.national.com/ds/LM/LM4132.pdf; ComponentLink2Description: LM4132 Web Page; ComponentLink2URL: http://www.national.com/pf/LM/LM4132.html; ComponentLink3Description: MF05A Package Page; ComponentLink3URL: http://www.national.com/packaging/folders/mf05a.html
footprint MF05A_N (SOT23, 5-Leads, Body 2.9x1.6mm, Pitch 0.95mm, Lead Span 2.8mm, IPC Medium Density)
footprint MF05A_L (SOT23, 5-Leads, Body 2.9x1.6mm, Pitch 0.95mm, Lead Span 2.8mm, IPC High Density)
footprint MF05A_M (SOT23, 5-Leads, Body 2.9x1.6mm, Pitch 0.95mm, Lead Span 2.8mm, IPC Low Density)
pins: 1 NC, 2 GND (power), 3 EN (in), 4 IN (power), 5 VREF (power)

## LM4132BMFX-4.1
designator U?
Precision Low Dropout Voltage Reference, 5-pin SOT-23; PartNumber: LM4132BMFX-4.1; Manufacturer: National Semiconductor; PackageTopMarking: R4FB*XTT; PowerWise: Y; CompType: Voltage Reference IC; Published: 1-Mar-2010; DatasheetVersion: Aug-2006; PackageVersion: revD, Aug-2008; PackageReference: MF05A; Publisher: Altium Limited; PackageDescription: Molded SOT-23, .115 x .063 x .040 in Body, 5 Lead, .0375 in Pitch; RoHS: N; PinCount: 5; ComponentLink1Description: LM4132 Datasheet; ComponentLink1URL: http://www.national.com/ds/LM/LM4132.pdf; ComponentLink2Description: LM4132 Web Page; ComponentLink2URL: http://www.national.com/pf/LM/LM4132.html; ComponentLink3Description: MF05A Package Page; ComponentLink3URL: http://www.national.com/packaging/folders/mf05a.html
footprint MF05A_N (SOT23, 5-Leads, Body 2.9x1.6mm, Pitch 0.95mm, Lead Span 2.8mm, IPC Medium Density)
footprint MF05A_L (SOT23, 5-Leads, Body 2.9x1.6mm, Pitch 0.95mm, Lead Span 2.8mm, IPC High Density)
footprint MF05A_M (SOT23, 5-Leads, Body 2.9x1.6mm, Pitch 0.95mm, Lead Span 2.8mm, IPC Low Density)
pins: 1 NC, 2 GND (power), 3 EN (in), 4 IN (power), 5 VREF (power)

## LM4132CMF-1.8
designator U?
Precision Low Dropout Voltage Reference, 5-pin SOT-23; PartNumber: LM4132CMF-1.8; Manufacturer: National Semiconductor; PackageTopMarking: R4AC*XTT; PowerWise: N; CompType: Voltage Reference IC; Published: 4-Dec-2008; DatasheetVersion: Aug-2006; PackageVersion: revD, Aug-2008; PackageReference: MF05A; Publisher: Altium Limited; PackageDescription: Molded SOT-23, .115 x .063 x .040 in Body, 5 Lead, .0375 in Pitch; RoHS: N; PinCount: 5; ComponentLink1Description: LM4132 Datasheet; ComponentLink1URL: http://www.national.com/ds/LM/LM4132.pdf; ComponentLink2Description: LM4132 Web Page; ComponentLink2URL: http://www.national.com/pf/LM/LM4132.html; ComponentLink3Description: MF05A Package Page; ComponentLink3URL: http://www.national.com/packaging/folders/mf05a.html
footprint MF05A_N (SOT23, 5-Leads, Body 2.9x1.6mm, Pitch 0.95mm, Lead Span 2.8mm, IPC Medium Density)
footprint MF05A_L (SOT23, 5-Leads, Body 2.9x1.6mm, Pitch 0.95mm, Lead Span 2.8mm, IPC High Density)
footprint MF05A_M (SOT23, 5-Leads, Body 2.9x1.6mm, Pitch 0.95mm, Lead Span 2.8mm, IPC Low Density)
pins: 1 NC, 2 GND (power), 3 EN (in), 4 IN (power), 5 VREF (power)

## LM4132CMF-1.8/NOPB
designator U?
Precision Low Dropout Voltage Reference, 5-pin SOT-23, Pb-Free; PartNumber: LM4132CMF-1.8/NOPB; Manufacturer: National Semiconductor; PackageTopMarking: R4AC*XTT; PowerWise: N; CompType: Voltage Reference IC; Published: 1-Mar-2010; DatasheetVersion: Aug-2006; PackageVersion: revD, Aug-2008; PackageReference: MF05A; Publisher: Altium Limited; PackageDescription: Molded SOT-23, .115 x .063 x .040 in Body, 5 Lead, .0375 in Pitch; Supplier 1: Digi-Key; Supplier Part Number 1: LM4132CMF-1.8TR-ND; Supplier 2: Digi-Key; Supplier Part Number 2: LM4132CMF-1.8CT-ND; Supplier 3: Digi-Key; Supplier Part Number 3: LM4132CMF-1.8DKR-ND; RoHS: Y; PinCount: 5; ComponentLink1Description: LM4132 Datasheet; ComponentLink1URL: http://www.national.com/ds/LM/LM4132.pdf; ComponentLink2Description: LM4132 Web Page; ComponentLink2URL: http://www.national.com/pf/LM/LM4132.html; ComponentLink3Description: MF05A Package Page; ComponentLink3URL: http://www.national.com/packaging/folders/mf05a.html
footprint MF05A_N (SOT23, 5-Leads, Body 2.9x1.6mm, Pitch 0.95mm, Lead Span 2.8mm, IPC Medium Density)
footprint MF05A_L (SOT23, 5-Leads, Body 2.9x1.6mm, Pitch 0.95mm, Lead Span 2.8mm, IPC High Density)
footprint MF05A_M (SOT23, 5-Leads, Body 2.9x1.6mm, Pitch 0.95mm, Lead Span 2.8mm, IPC Low Density)
pins: 1 NC, 2 GND (power), 3 EN (in), 4 IN (power), 5 VREF (power)

## LM4132CMF-2.0
designator U?
Precision Low Dropout Voltage Reference, 5-pin SOT-23; PartNumber: LM4132CMF-2.0; Manufacturer: National Semiconductor; PackageTopMarking: R4BC*XTT; PowerWise: Y; CompType: Voltage Reference IC; Published: 4-Dec-2008; DatasheetVersion: Aug-2006; PackageVersion: revD, Aug-2008; PackageReference: MF05A; Publisher: Altium Limited; PackageDescription: Molded SOT-23, .115 x .063 x .040 in Body, 5 Lead, .0375 in Pitch; Supplier 1: Farnell; Supplier Part Number 1: 1312756; RoHS: N; PinCount: 5; ComponentLink1Description: LM4132 Datasheet; ComponentLink1URL: http://www.national.com/ds/LM/LM4132.pdf; ComponentLink2Description: LM4132 Web Page; ComponentLink2URL: http://www.national.com/pf/LM/LM4132.html; ComponentLink3Description: MF05A Package Page; ComponentLink3URL: http://www.national.com/packaging/folders/mf05a.html
footprint MF05A_N (SOT23, 5-Leads, Body 2.9x1.6mm, Pitch 0.95mm, Lead Span 2.8mm, IPC Medium Density)
footprint MF05A_L (SOT23, 5-Leads, Body 2.9x1.6mm, Pitch 0.95mm, Lead Span 2.8mm, IPC High Density)
footprint MF05A_M (SOT23, 5-Leads, Body 2.9x1.6mm, Pitch 0.95mm, Lead Span 2.8mm, IPC Low Density)
pins: 1 NC, 2 GND (power), 3 EN (in), 4 IN (power), 5 VREF (power)

## LM4132CMF-2.5
designator U?
Precision Low Dropout Voltage Reference, 5-pin SOT-23; PartNumber: LM4132CMF-2.5; Manufacturer: National Semiconductor; PackageTopMarking: R4CC*XTT; PowerWise: Y; CompType: Voltage Reference IC; Published: 4-Dec-2008; DatasheetVersion: Aug-2006; PackageVersion: revD, Aug-2008; PackageReference: MF05A; Publisher: Altium Limited; PackageDescription: Molded SOT-23, .115 x .063 x .040 in Body, 5 Lead, .0375 in Pitch; Supplier 1: Farnell; Supplier Part Number 1: 1312757; RoHS: N; PinCount: 5; ComponentLink1Description: LM4132 Datasheet; ComponentLink1URL: http://www.national.com/ds/LM/LM4132.pdf; ComponentLink2Description: LM4132 Web Page; ComponentLink2URL: http://www.national.com/pf/LM/LM4132.html; ComponentLink3Description: MF05A Package Page; ComponentLink3URL: http://www.national.com/packaging/folders/mf05a.html
footprint MF05A_N (SOT23, 5-Leads, Body 2.9x1.6mm, Pitch 0.95mm, Lead Span 2.8mm, IPC Medium Density)
footprint MF05A_L (SOT23, 5-Leads, Body 2.9x1.6mm, Pitch 0.95mm, Lead Span 2.8mm, IPC High Density)
footprint MF05A_M (SOT23, 5-Leads, Body 2.9x1.6mm, Pitch 0.95mm, Lead Span 2.8mm, IPC Low Density)
pins: 1 NC, 2 GND (power), 3 EN (in), 4 IN (power), 5 VREF (power)

## LM4132CMF-2.5/NOPB
designator U?
Precision Low Dropout Voltage Reference, 5-pin SOT-23, Pb-Free; PartNumber: LM4132CMF-2.5/NOPB; Manufacturer: National Semiconductor; PackageTopMarking: R4CC*XTT; PowerWise: Y; CompType: Voltage Reference IC; Published: 1-Mar-2010; DatasheetVersion: Aug-2006; PackageVersion: revD, Aug-2008; PackageReference: MF05A; Publisher: Altium Limited; PackageDescription: Molded SOT-23, .115 x .063 x .040 in Body, 5 Lead, .0375 in Pitch; Supplier 1: Digi-Key; Supplier Part Number 1: LM4132CMF-2.5TR-ND; Supplier 2: Digi-Key; Supplier Part Number 2: LM4132CMF-2.5CT-ND; Supplier 3: Digi-Key; Supplier Part Number 3: LM4132CMF-2.5DKR-ND; RoHS: Y; PinCount: 5; ComponentLink1Description: LM4132 Datasheet; ComponentLink1URL: http://www.national.com/ds/LM/LM4132.pdf; ComponentLink2Description: LM4132 Web Page; ComponentLink2URL: http://www.national.com/pf/LM/LM4132.html; ComponentLink3Description: MF05A Package Page; ComponentLink3URL: http://www.national.com/packaging/folders/mf05a.html
footprint MF05A_N (SOT23, 5-Leads, Body 2.9x1.6mm, Pitch 0.95mm, Lead Span 2.8mm, IPC Medium Density)
footprint MF05A_L (SOT23, 5-Leads, Body 2.9x1.6mm, Pitch 0.95mm, Lead Span 2.8mm, IPC High Density)
footprint MF05A_M (SOT23, 5-Leads, Body 2.9x1.6mm, Pitch 0.95mm, Lead Span 2.8mm, IPC Low Density)
pins: 1 NC, 2 GND (power), 3 EN (in), 4 IN (power), 5 VREF (power)

## LM4132CMF-3.0
designator U?
Precision Low Dropout Voltage Reference, 5-pin SOT-23; PartNumber: LM4132CMF-3.0; Manufacturer: National Semiconductor; PackageTopMarking: R4DC*XTT; PowerWise: N; CompType: Voltage Reference IC; Published: 4-Dec-2008; DatasheetVersion: Aug-2006; PackageVersion: revD, Aug-2008; PackageReference: MF05A; Publisher: Altium Limited; PackageDescription: Molded SOT-23, .115 x .063 x .040 in Body, 5 Lead, .0375 in Pitch; RoHS: N; PinCount: 5; ComponentLink1Description: LM4132 Datasheet; ComponentLink1URL: http://www.national.com/ds/LM/LM4132.pdf; ComponentLink2Description: LM4132 Web Page; ComponentLink2URL: http://www.national.com/pf/LM/LM4132.html; ComponentLink3Description: MF05A Package Page; ComponentLink3URL: http://www.national.com/packaging/folders/mf05a.html
footprint MF05A_N (SOT23, 5-Leads, Body 2.9x1.6mm, Pitch 0.95mm, Lead Span 2.8mm, IPC Medium Density)
footprint MF05A_L (SOT23, 5-Leads, Body 2.9x1.6mm, Pitch 0.95mm, Lead Span 2.8mm, IPC High Density)
footprint MF05A_M (SOT23, 5-Leads, Body 2.9x1.6mm, Pitch 0.95mm, Lead Span 2.8mm, IPC Low Density)
pins: 1 NC, 2 GND (power), 3 EN (in), 4 IN (power), 5 VREF (power)

## LM4132CMF-3.0/NOPB
designator U?
Precision Low Dropout Voltage Reference, 5-pin SOT-23, Pb-Free; PartNumber: LM4132CMF-3.0/NOPB; Manufacturer: National Semiconductor; PackageTopMarking: R4DC*XTT; PowerWise: N; CompType: Voltage Reference IC; Published: 1-Mar-2010; DatasheetVersion: Aug-2006; PackageVersion: revD, Aug-2008; PackageReference: MF05A; Publisher: Altium Limited; PackageDescription: Molded SOT-23, .115 x .063 x .040 in Body, 5 Lead, .0375 in Pitch; Supplier 1: Digi-Key; Supplier Part Number 1: LM4132CMF-3.0TR-ND; Supplier 2: Digi-Key; Supplier Part Number 2: LM4132CMF-3.0CT-ND; Supplier 3: Digi-Key; Supplier Part Number 3: LM4132CMF-3.0DKR-ND; RoHS: Y; PinCount: 5; ComponentLink1Description: LM4132 Datasheet; ComponentLink1URL: http://www.national.com/ds/LM/LM4132.pdf; ComponentLink2Description: LM4132 Web Page; ComponentLink2URL: http://www.national.com/pf/LM/LM4132.html; ComponentLink3Description: MF05A Package Page; ComponentLink3URL: http://www.national.com/packaging/folders/mf05a.html
footprint MF05A_N (SOT23, 5-Leads, Body 2.9x1.6mm, Pitch 0.95mm, Lead Span 2.8mm, IPC Medium Density)
footprint MF05A_L (SOT23, 5-Leads, Body 2.9x1.6mm, Pitch 0.95mm, Lead Span 2.8mm, IPC High Density)
footprint MF05A_M (SOT23, 5-Leads, Body 2.9x1.6mm, Pitch 0.95mm, Lead Span 2.8mm, IPC Low Density)
pins: 1 NC, 2 GND (power), 3 EN (in), 4 IN (power), 5 VREF (power)

## LM4132CMF-3.3
designator U?
Precision Low Dropout Voltage Reference, 5-pin SOT-23; PartNumber: LM4132CMF-3.3; Manufacturer: National Semiconductor; PackageTopMarking: R4EC*XTT; PowerWise: N; CompType: Voltage Reference IC; Published: 4-Dec-2008; DatasheetVersion: Aug-2006; PackageVersion: revD, Aug-2008; PackageReference: MF05A; Publisher: Altium Limited; PackageDescription: Molded SOT-23, .115 x .063 x .040 in Body, 5 Lead, .0375 in Pitch; RoHS: N; PinCount: 5; ComponentLink1Description: LM4132 Datasheet; ComponentLink1URL: http://www.national.com/ds/LM/LM4132.pdf; ComponentLink2Description: LM4132 Web Page; ComponentLink2URL: http://www.national.com/pf/LM/LM4132.html; ComponentLink3Description: MF05A Package Page; ComponentLink3URL: http://www.national.com/packaging/folders/mf05a.html
footprint MF05A_N (SOT23, 5-Leads, Body 2.9x1.6mm, Pitch 0.95mm, Lead Span 2.8mm, IPC Medium Density)
footprint MF05A_L (SOT23, 5-Leads, Body 2.9x1.6mm, Pitch 0.95mm, Lead Span 2.8mm, IPC High Density)
footprint MF05A_M (SOT23, 5-Leads, Body 2.9x1.6mm, Pitch 0.95mm, Lead Span 2.8mm, IPC Low Density)
pins: 1 NC, 2 GND (power), 3 EN (in), 4 IN (power), 5 VREF (power)

## LM4132CMF-3.3/NOPB
designator U?
Precision Low Dropout Voltage Reference, 5-pin SOT-23, Pb-Free; PartNumber: LM4132CMF-3.3/NOPB; Manufacturer: National Semiconductor; PackageTopMarking: R4EC*XTT; PowerWise: N; CompType: Voltage Reference IC; Published: 1-Mar-2010; DatasheetVersion: Aug-2006; PackageVersion: revD, Aug-2008; PackageReference: MF05A; Publisher: Altium Limited; PackageDescription: Molded SOT-23, .115 x .063 x .040 in Body, 5 Lead, .0375 in Pitch; Supplier 1: Digi-Key; Supplier Part Number 1: LM4132CMF-3.3TR-ND; Supplier 2: Digi-Key; Supplier Part Number 2: LM4132CMF-3.3CT-ND; Supplier 3: Digi-Key; Supplier Part Number 3: LM4132CMF-3.3DKR-ND; RoHS: Y; PinCount: 5; ComponentLink1Description: LM4132 Datasheet; ComponentLink1URL: http://www.national.com/ds/LM/LM4132.pdf; ComponentLink2Description: LM4132 Web Page; ComponentLink2URL: http://www.national.com/pf/LM/LM4132.html; ComponentLink3Description: MF05A Package Page; ComponentLink3URL: http://www.national.com/packaging/folders/mf05a.html
footprint MF05A_N (SOT23, 5-Leads, Body 2.9x1.6mm, Pitch 0.95mm, Lead Span 2.8mm, IPC Medium Density)
footprint MF05A_L (SOT23, 5-Leads, Body 2.9x1.6mm, Pitch 0.95mm, Lead Span 2.8mm, IPC High Density)
footprint MF05A_M (SOT23, 5-Leads, Body 2.9x1.6mm, Pitch 0.95mm, Lead Span 2.8mm, IPC Low Density)
pins: 1 NC, 2 GND (power), 3 EN (in), 4 IN (power), 5 VREF (power)

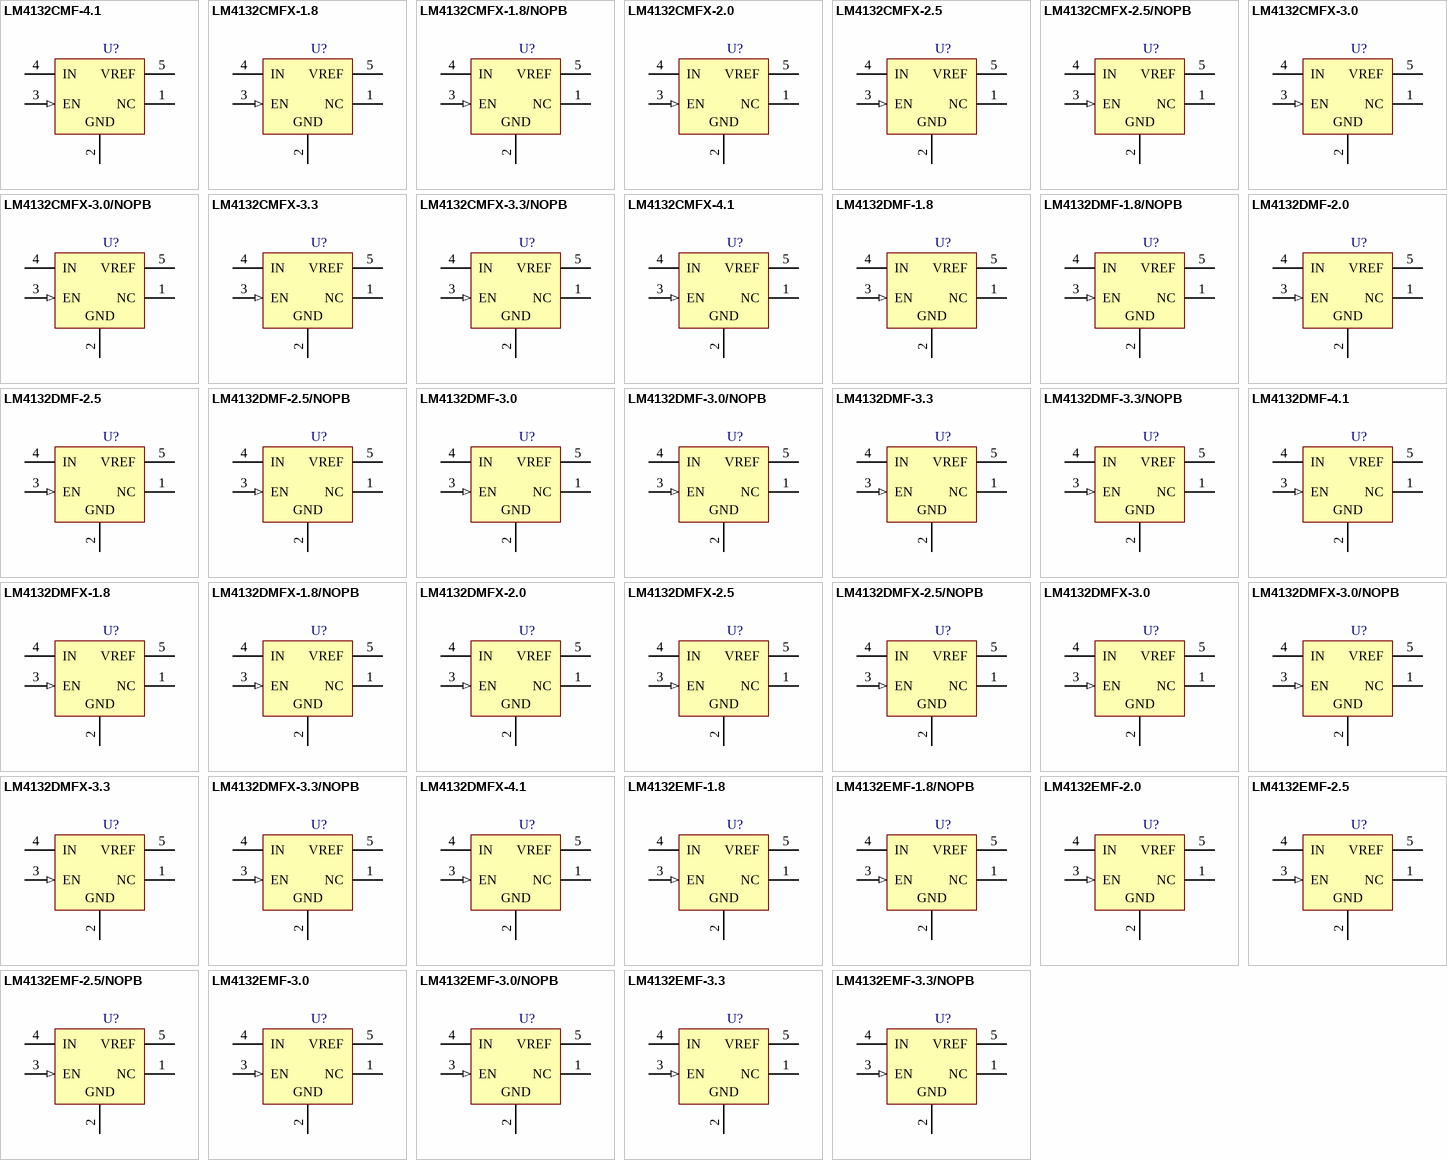
[diagram p18: symbols LM4132CMF-4.1 to LM4132EMF-3.3/NOPB]

## LM4132CMF-4.1
designator U?
Precision Low Dropout Voltage Reference, 5-pin SOT-23; PartNumber: LM4132CMF-4.1; Manufacturer: National Semiconductor; PackageTopMarking: R4FC*XTT; PowerWise: Y; CompType: Voltage Reference IC; Published: 4-Dec-2008; DatasheetVersion: Aug-2006; PackageVersion: revD, Aug-2008; PackageReference: MF05A; Publisher: Altium Limited; PackageDescription: Molded SOT-23, .115 x .063 x .040 in Body, 5 Lead, .0375 in Pitch; Supplier 1: Farnell; Supplier Part Number 1: 1312758; RoHS: N; PinCount: 5; ComponentLink1Description: LM4132 Datasheet; ComponentLink1URL: http://www.national.com/ds/LM/LM4132.pdf; ComponentLink2Description: LM4132 Web Page; ComponentLink2URL: http://www.national.com/pf/LM/LM4132.html; ComponentLink3Description: MF05A Package Page; ComponentLink3URL: http://www.national.com/packaging/folders/mf05a.html
footprint MF05A_N (SOT23, 5-Leads, Body 2.9x1.6mm, Pitch 0.95mm, Lead Span 2.8mm, IPC Medium Density)
footprint MF05A_L (SOT23, 5-Leads, Body 2.9x1.6mm, Pitch 0.95mm, Lead Span 2.8mm, IPC High Density)
footprint MF05A_M (SOT23, 5-Leads, Body 2.9x1.6mm, Pitch 0.95mm, Lead Span 2.8mm, IPC Low Density)
pins: 1 NC, 2 GND (power), 3 EN (in), 4 IN (power), 5 VREF (power)